# Altium footprint library 3296X1223LF.PcbLib: 1 footprints
Each footprint in its own frame and in the unit in brackets; x right, y up, seen from the top. Pads: shape width x height; smd on the part's side, far side on the other; paste and mask are expansions set on the pad; w line width, h text height; cw(c..) or ccw(c..) is an arc to the next point about the centre after c.
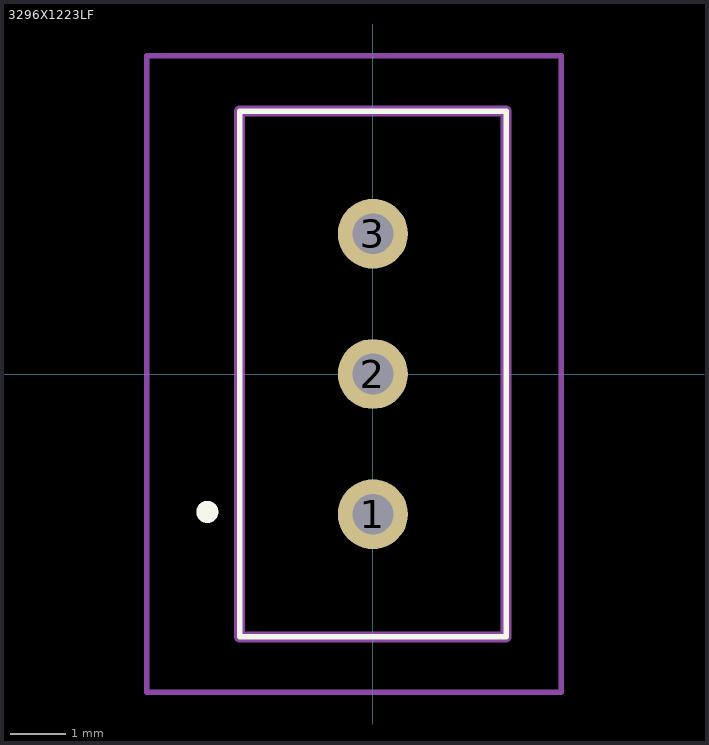
[diagram p0: the footprint, top view; thin cyan lines are the x and y axes]

## 3296X1223LF [mm]
pads (3):
  round 1.269 hole 0.74: 1(0,-2.54) 2(0,0) 3(0,2.54)
Top Overlay:
  lines w0.1: -2.415,-4.765 -2.415,4.765 2.415,4.765 2.415,-4.765 -2.415,-4.765
  lines w0.2: -3,-2.6 cw(c-3,-2.5) -3,-2.4 cw(c-3,-2.5) -3,-2.6
Mechanical 15:
  lines w0.2: -2.415,-4.765 -2.415,4.765 2.415,4.765 2.415,-4.765 -2.415,-4.765
Mechanical 20:
  lines w0.1: -4.1,-5.765 -4.1,5.765 3.415,5.765 3.415,-5.765 -4.1,-5.765
3D body "3296X-1-103.stp": height 10.03, standoff -6.02, extent -2.032,-4.826 2.798,6.224